# EAGLE library part 620306124022 (library Wire-to-Board (rev18a))
WR-WTB 2.00mm SMT Male Vertical Shrouded Header, 6 Pins=>Code : Con_WTB_2.00_PCB_SMT_620306124022 <http://katalog.we-online.de/media/thumbs2/eican/thb_Con_WTB_2.00_PCB_SMT_6203xx124022_pf2.jpg> Details see: http://katalog.we-online.de/en/em/WTB_2_00_SMT_MALE_VERTICAL_SHROUDED_HEADER_6203XX124022 Created 2014-06-05, Karrer Zheng 2014 (C) Würth Elektronik
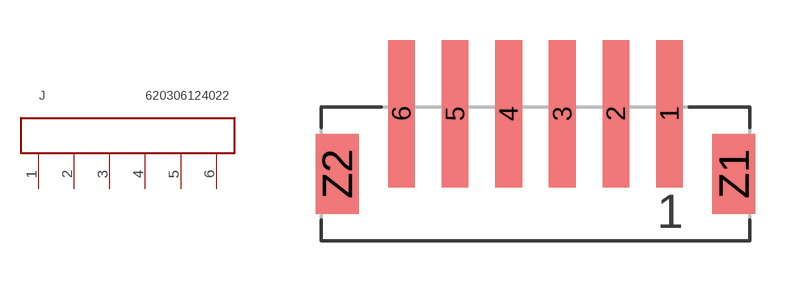
[diagram p35: symbol with the pads of 620306124022; footprint 620306124022]

Designator prefix J

## 620306124022  [620306124022]
1  6  pas
2  5  pas
3  4  pas
4  3  pas
5  2  pas
6  1  pas

## Footprint 620306124022 (pad centres in mm)
WR-WTB 2.00mm SMT Male Vertical Shrouded Header, 6 Pins
smd 1 x 5.5: 1 5,0; 2 3,0; 3 1,0; 4 -1,0; 5 -3,0; 6 -5,0
smd 1.6 x 3: Z1 7.4,-2.25; Z2 -7.4,-2.25